# EAGLE library part HD-20 (library strasys_standard)
SUB-D 9 female (=Buchse)
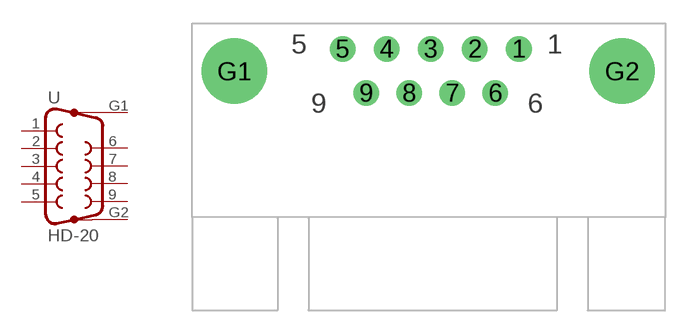
[diagram p3: symbol with the pads of SUB-D_HD-20; footprint SUB-D_HD-20]

Designator prefix -

## HD-20 (MNC: 1734354-1; OC_FARNELL: 1653978; SUPPLIER: TE-Connectivity)  [SUB-D_HD-20]
1  1  pas
2  2  pas
3  3  pas
4  4  pas
5  5  pas
6  6  pas
7  7  pas
8  8  pas
9  9  pas
G1  G1  pas
G2  G2  pas

## Footprint SUB-D_HD-20 (pad centres in mm)
drill 1.1: 1 7.065,2.84; 2 4.225,2.84; 3 1.385,2.84; 4 -1.455,2.84; 5 -4.295,2.84; 6 5.54,0; 7 2.77,0; 8 0,0; 9 -2.77,0
drill 3.2: G1 -11.275,1.42; G2 13.715,1.42